# Altium footprint library MotorDriver.PcbLib: 1 footprints
Each footprint in its own frame and in the unit in brackets; x right, y up, seen from the top. Pads: shape width x height; smd on the part's side, far side on the other; paste and mask are expansions set on the pad; w line width, h text height; cw(c..) or ccw(c..) is an arc to the next point about the centre after c.
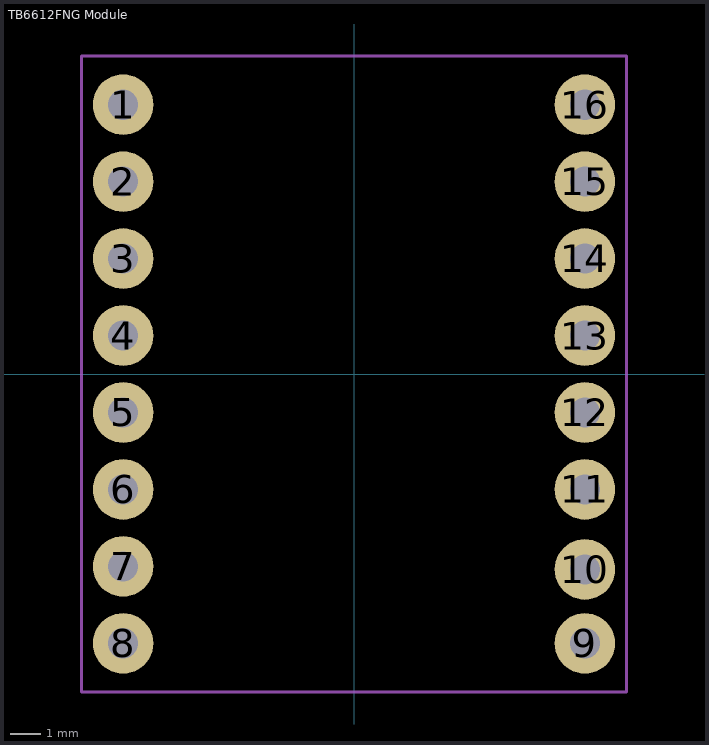
[diagram p0: the footprint, top view; thin cyan lines are the x and y axes]

## TB6612FNG Module [mm]
height 10
pads (16):
  round 2 hole 1: 1(-7.62,8.89) 2(-7.62,6.35) 3(-7.62,3.81) 4(-7.62,1.27) 5(-7.62,-1.27) 6(-7.62,-3.81) 7(-7.62,-6.35) 8(-7.62,-8.89) 9(7.62,-8.89) 10(7.62,-6.45) 11(7.62,-3.81) 12(7.62,-1.27) 13(7.62,1.27) 14(7.62,3.81) 15(7.62,6.35) 16(7.62,8.89)
Top Courtyard:
  lines w0.1: -9,-10.5 9,-10.5 9,10.5 -9,10.5 -9,-10.5
3D body "61300811121+%28rev1%29.stp": height 5.62, standoff -5.92, extent -8.89,-10.16 -6.35,10.16
3D body "61300811121+%28rev1%29.stp": height 5.52, standoff -6.02, extent 6.35,-10.16 8.89,10.16
3D body: height 4.25, standoff 2.65, extent -9,-10.5 9,10.5